# Altium schematic symbol library Schlib_Micron_Technology.SchLib: 6 symbols
Pins are listed as number, name and electrical type; pins without a type are passive.

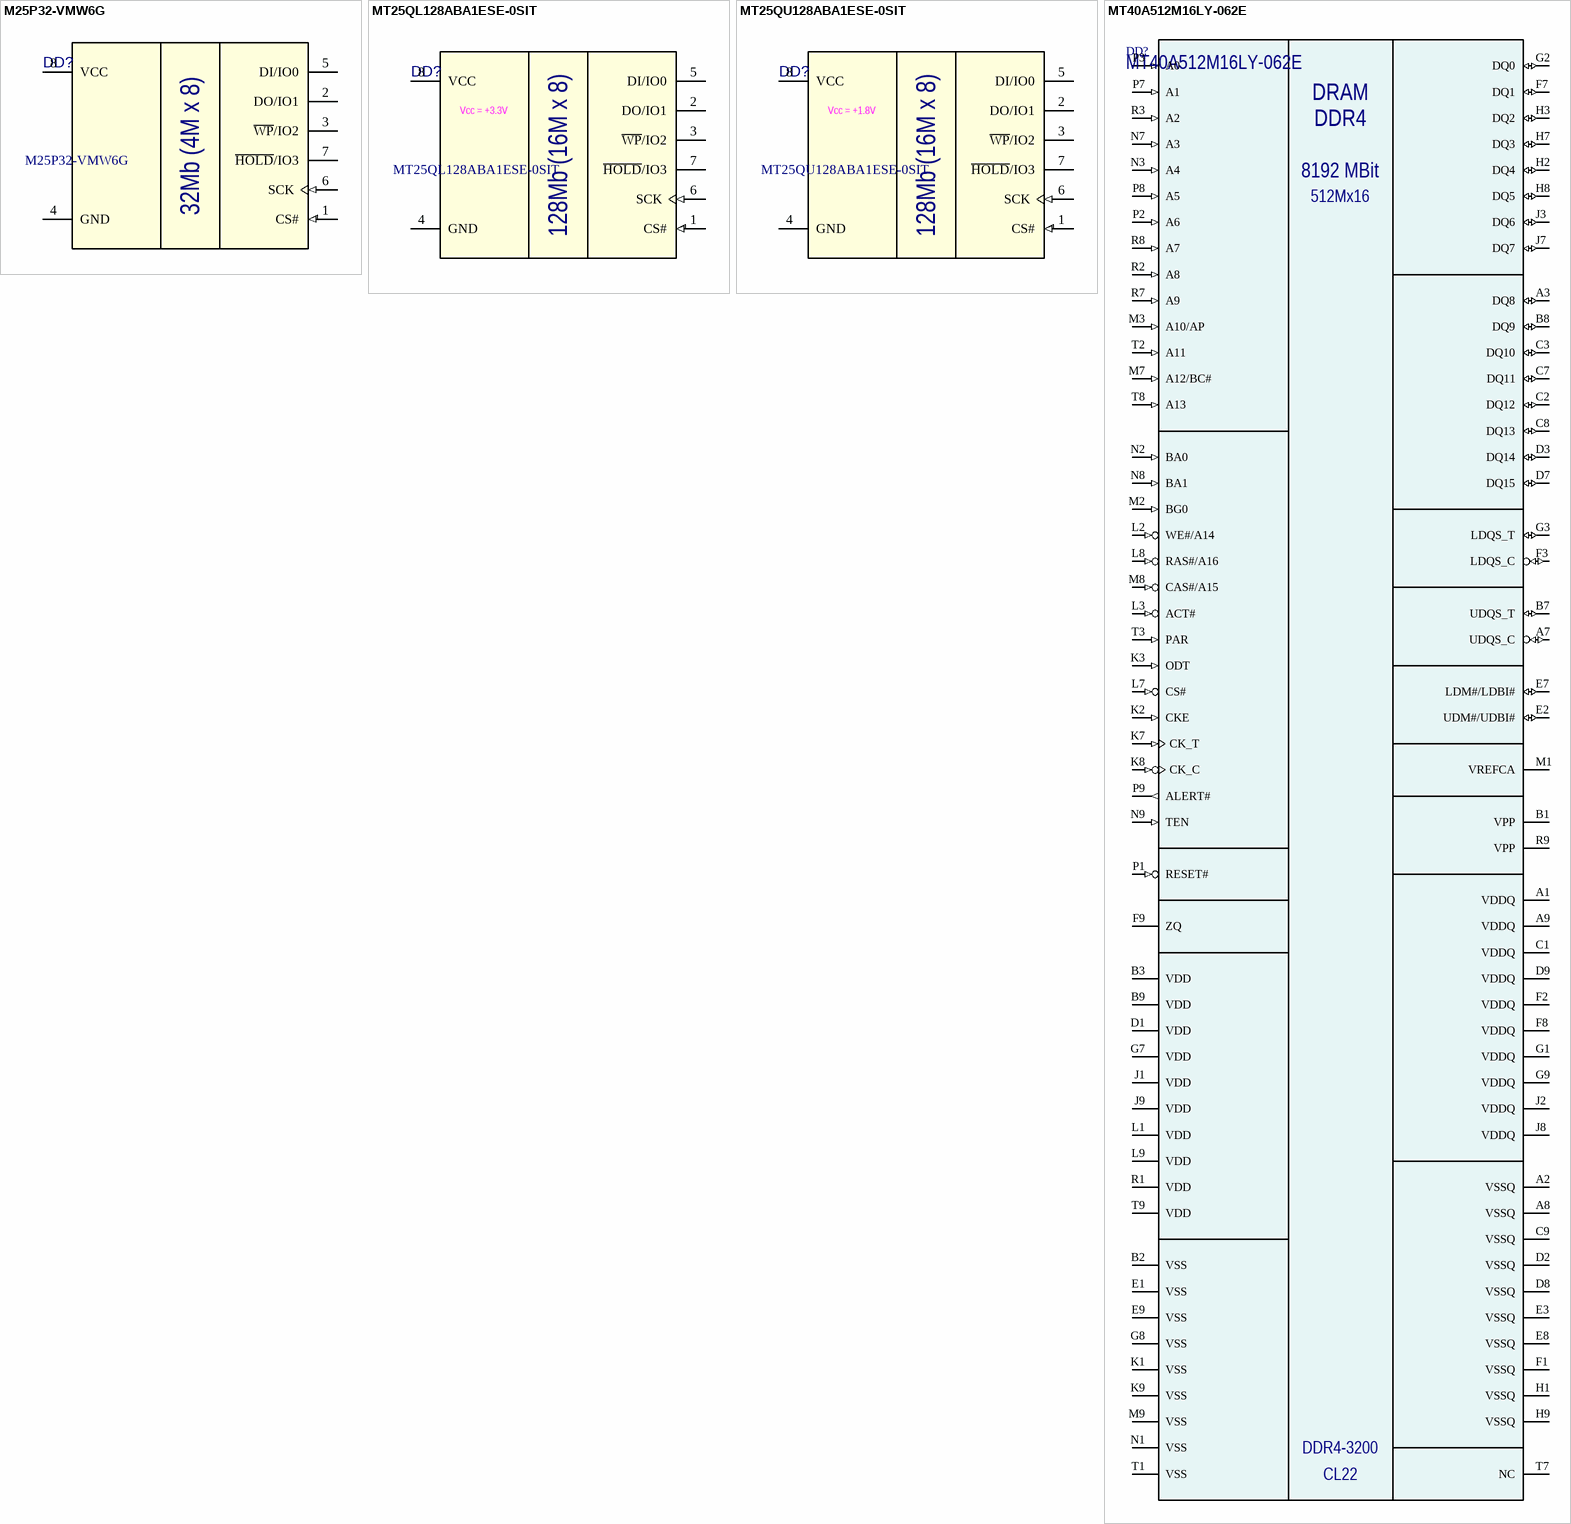
[diagram p0: symbols M25P32-VMW6G to MT40A512M16LY-062E]

## M25P32-VMW6G
designator DD?
Serial NOR Flash Memory, 3V, Multiple I/O, 4KB, 32KB, 64KB, Sector Erase; Manufacturer: Micron Technology; Part Number: M25P32-VMW6G
footprint SOIC-8-WIDE (SOIC, 8-Leads, Body 4.50x4.50mm, Pitch 1.27mm, Thermal Pad 4.20x4.20mm, IPC Medium Density)
pins: 1 CS# (in) "GND", 2 DO/IO1 "GND", 3 ~{WP}/IO2 "GND", 4 GND (power), 5 DI/IO0 "GND", 6 SCK (in) "GND", 7 ~{HOLD}/IO3 "GND", 8 VCC (power) "GND"
1 alternate drawing of the same symbol
text: 32Mb (4M x 8)

## MT25QL128ABA1ESE-0SIT
designator DD?
Serial NOR Flash Memory, 3V, Multiple I/O, 4KB, 32KB, 64KB, Sector Erase; Manufacturer: Micron Technology; Part Number: MT25QL128ABA1ESE-0SIT
footprint SOIC-8-WIDE (SOIC, 8-Leads, Body 4.50x4.50mm, Pitch 1.27mm, Thermal Pad 4.20x4.20mm, IPC Medium Density)
footprint SOIC-8-WIDE_WITH_SOIC-16N (SOIC, 8-Leads, Body 4.50x4.50mm, Pitch 1.27mm, Thermal Pad 4.20x4.20mm, IPC Medium Density with SOIC 16-Leads, Body 10.29x7.49mm, Pitch 1.27mm, IPC Medium Density)
pins: 1 CS# (in) "GND", 2 DO/IO1 "GND", 3 ~{WP}/IO2 "GND", 4 GND (power), 5 DI/IO0 "GND", 6 SCK (in) "GND", 7 ~{HOLD}/IO3 "GND", 8 VCC (power) "GND"
1 alternate drawing of the same symbol
text: Vcc = +3.3V; 128Mb (16M x 8)

## MT25QU128ABA1ESE-0SIT
designator DD?
Serial NOR Flash Memory, 1.8V, Multiple I/O, 4KB, 32KB, 64KB, Sector Erase; Manufacturer: Micron Technology; Part Number: MT25QU128ABA1ESE-0SIT
footprint SOIC-8-WIDE (SOIC, 8-Leads, Body 4.50x4.50mm, Pitch 1.27mm, Thermal Pad 4.20x4.20mm, IPC Medium Density)
footprint SOIC-8-WIDE_WITH_SOIC-16N (SOIC, 8-Leads, Body 4.50x4.50mm, Pitch 1.27mm, Thermal Pad 4.20x4.20mm, IPC Medium Density with SOIC 16-Leads, Body 10.29x7.49mm, Pitch 1.27mm, IPC Medium Density)
pins: 1 CS# (in) "GND", 2 DO/IO1 "GND", 3 ~{WP}/IO2 "GND", 4 GND (power), 5 DI/IO0 "GND", 6 SCK (in) "GND", 7 ~{HOLD}/IO3 "GND", 8 VCC (power) "GND"
1 alternate drawing of the same symbol
text: Vcc = +1.8V; 128Mb (16M x 8)

## MT40A512M16LY-062E
designator DD?
512Mx16 DDR4 SDRAM; Manufacturer: Micron Technology; Package: FBGA-96 (7.5x13.5mm); Part Number: MT40A512M16LY-062E
footprint FBGA-96(7.5x13.5) (FBGA-96 package with 0.8mm pitch, 7.5x13.5mm)
pins: A1 VDDQ (power), A2 VSSQ (power), A3 DQ8 (io), A7 UDQS_C (io), A8 VSSQ (power), A9 VDDQ (power), B1 VPP (power), B2 VSS (power), B3 VDD (power), B7 UDQS_T (io), B8 DQ9 (io), B9 VDD (power), C1 VDDQ (power), C2 DQ12 (io), C3 DQ10 (io), C7 DQ11 (io), C8 DQ13 (io), C9 VSSQ (power), D1 VDD (power), D2 VSSQ (power), D3 DQ14 (io), D7 DQ15 (io), D8 VSSQ (power), D9 VDDQ (power), E1 VSS (power), E2 UDM#/UDBI# (io), E3 VSSQ (power), E7 LDM#/LDBI# (io), E8 VSSQ (power), E9 VSS (power), F1 VSSQ (power), F2 VDDQ (power), F3 LDQS_C (io), F7 DQ1 (io), F8 VDDQ (power), F9 ZQ, G1 VDDQ (power), G2 DQ0 (io), G3 LDQS_T (io), G7 VDD (power), G8 VSS (power), G9 VDDQ (power), H1 VSSQ (power), H2 DQ4 (io), H3 DQ2 (io), H7 DQ3 (io), H8 DQ5 (io), H9 VSSQ (power), J1 VDD (power), J2 VDDQ (power), J3 DQ6 (io), J7 DQ7 (io), J8 VDDQ (power), J9 VDD (power), K1 VSS (power), K2 CKE (in), K3 ODT (in), K7 CK_T (in), K8 CK_C (in), K9 VSS (power), L1 VDD (power), L2 WE#/A14 (in), L3 ACT# (in), L7 CS# (in), L8 RAS#/A16 (in), L9 VDD (power), M1 VREFCA, M2 BG0 (in), M3 A10/AP (in), M7 A12/BC# (in), M8 CAS#/A15 (in), M9 VSS (power), N1 VSS (power), N2 BA0 (in), N3 A4 (in), N7 A3 (in), N8 BA1 (in), N9 TEN (in), P1 RESET# (in), P2 A6 (in), P3 A0 (in), P7 A1 (in), P8 A5 (in), P9 ALERT# (out), R1 VDD (power), R2 A8 (in), R3 A2 (in), R7 A9 (in), R8 A7 (in), R9 VPP (power), T1 VSS (power), T2 A11 (in), T3 PAR (in), T7 NC (hiz), T8 A13 (in), T9 VDD (power)
text: DRAM; DDR4; 8192 MBit; 512Mx16; DDR4-3200; CL22

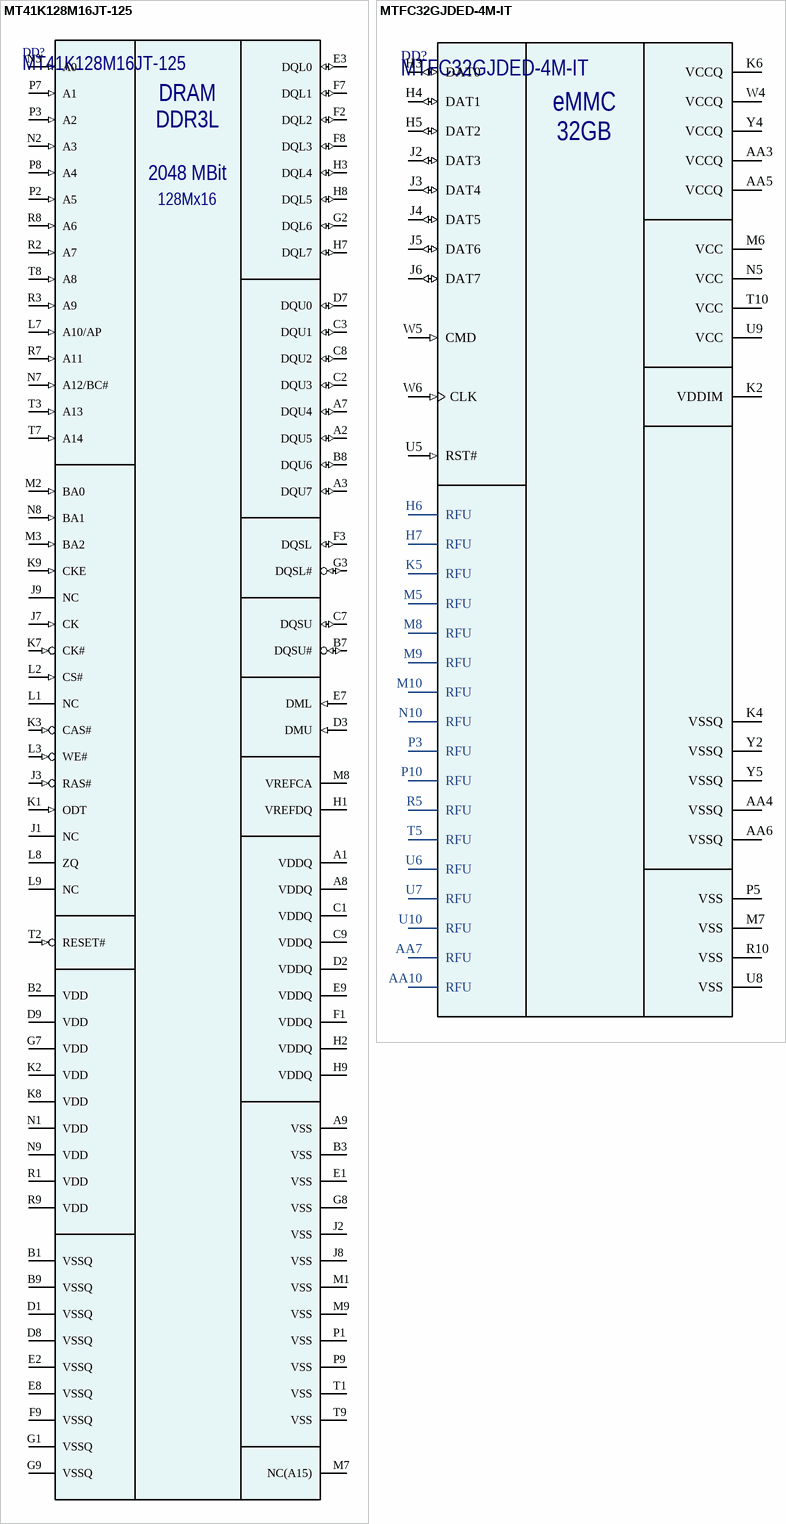
[diagram p1: symbols MT41K128M16JT-125 to MTFC32GJDED-4M-IT]

## MT41K128M16JT-125
designator DD?
128Mx16 2Gb DDR3 SDRAM; Manufacturer: Micron Technology; Package: TFBGA-96 (9x13mm); Part Number: MT41K128M16JT-125
footprint FBGA-96 (TFBGA-96 package with 0.8mm pitch, 9x13mm)
pins: A1 VDDQ (power), A2 DQU5 (io), A3 DQU7 (io), A7 DQU4 (io), A8 VDDQ (power), A9 VSS (power), B1 VSSQ (power), B2 VDD (power), B3 VSS (power), B7 DQSU# (io), B8 DQU6 (io), B9 VSSQ (power), C1 VDDQ (power), C2 DQU3 (io), C3 DQU1 (io), C7 DQSU (io), C8 DQU2 (io), C9 VDDQ (power), D1 VSSQ (power), D2 VDDQ (power), D3 DMU (in), D7 DQU0 (io), D8 VSSQ (power), D9 VDD (power), E1 VSS (power), E2 VSSQ (power), E3 DQL0 (io), E7 DML (in), E8 VSSQ (power), E9 VDDQ (power), F1 VDDQ (power), F2 DQL2 (io), F3 DQSL (io), F7 DQL1 (io), F8 DQL3 (io), F9 VSSQ (power), G1 VSSQ (power), G2 DQL6 (io), G3 DQSL# (io), G7 VDD (power), G8 VSS (power), G9 VSSQ (power), H1 VREFDQ (power), H2 VDDQ (power), H3 DQL4 (io), H7 DQL7 (io), H8 DQL5 (io), H9 VDDQ (power), J1 NC (hiz), J2 VSS (power), J3 RAS# (in), J7 CK (in), J8 VSS (power), J9 NC (hiz), K1 ODT (in), K2 VDD (power), K3 CAS# (in), K7 CK# (in), K8 VDD (power), K9 CKE (in), L1 NC (hiz), L2 CS# (in), L3 WE# (in), L7 A10/AP (in), L8 ZQ (power), L9 NC (hiz), M1 VSS (power), M2 BA0 (in), M3 BA2 (in), M7 NC(A15) (hiz), M8 VREFCA (power), M9 VSS (power), N1 VDD (power), N2 A3 (in), N3 A0 (in), N7 A12/BC# (in), N8 BA1 (in), N9 VDD (power), P1 VSS (power), P2 A5 (in), P3 A2 (in), P7 A1 (in), P8 A4 (in), P9 VSS (power), R1 VDD (power), R2 A7 (in), R3 A9 (in), R7 A11 (in), R8 A6 (in), R9 VDD (power), T1 VSS (power), T2 RESET# (in), T3 A13 (in), T7 A14 (in), T8 A8 (in), T9 VSS (power)
text: DRAM; DDR3L; 2048 MBit; 128Mx16

## MTFC32GJDED-4M-IT
designator DD?
32GB eMMC; Manufacturer: Micron Technology; Package: WFBGA-169; Part Number: MTFC32GJDED-4M-IT
footprint WFBGA-169 (WFBGA-169, 169-Leads, Body 11.00x11.00mmx3.50mm, Pitch 0.50mm)
pins: AA3 VCCQ (power), AA4 VSSQ (power), AA5 VCCQ (power), AA6 VSSQ (power), AA7 RFU, AA10 RFU, H3 DAT0 (io), H4 DAT1 (io), H5 DAT2 (io), H6 RFU, H7 RFU, J2 DAT3 (io), J3 DAT4 (io), J4 DAT5 (io), J5 DAT6 (io), J6 DAT7 (io), K2 VDDIM (power), K4 VSSQ (power), K5 RFU, K6 VCCQ (power), M5 RFU, M6 VCC (power), M7 VSS (power), M8 RFU, M9 RFU, M10 RFU, N5 VCC (power), N10 RFU, P3 RFU, P5 VSS (power), P10 RFU, R5 RFU, R10 VSS (power), T5 RFU, T10 VCC (power), U5 RST# (in), U6 RFU, U7 RFU, U8 VSS (power), U9 VCC (power), U10 RFU, W4 VCCQ (power), W5 CMD (in), W6 CLK (in), Y2 VSSQ (power), Y4 VCCQ (power), Y5 VSSQ (power)
text: eMMC; 32GB